# Altium schematic symbol library ATTINY25-20SU.SchLib: 1 symbol
Pins are listed as number, name and electrical type; pins without a type are passive.

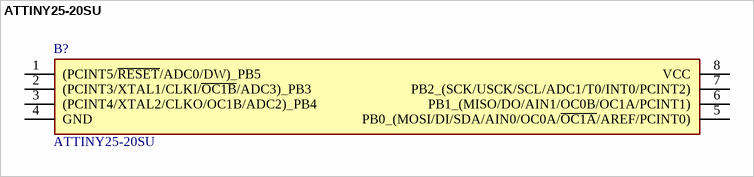
[diagram p0: symbol ATTINY25-20SU]

## ATTINY25-20SU
designator B?
ATTINY25-20SU, 8 bit AVR Microcontroller 20MHz 2, 128kB, B Flash, 128B RAM, I2C SPI 8-Pin SOIC; Manufacturer_Name: Microchip; Geometry.Height: 2.16mm; Mouser Part Number: 556-ATTINY25-20SU; Mouser Price/Stock: https://www.mouser.co.uk/ProductDetail/Microchip-Technology-Atmel/ATTINY25-20SU?qs=8jWQYweyg6Ne6mWXNq20wQ%3D%3D; Manufacturer_Part_Number: ATTINY25-20SU; Datasheet Link: https://datasheet.datasheetarchive.com/originals/distributors/Datasheets_SAMA/b7d776087f3438c2ffab22c1216558b5.pdf
footprint SOIC127P798X216-8N
pins: 1 (PCINT5/~{RESET}/ADC0/DW)_PB5, 2 (PCINT3/XTAL1/CLKI/~{OC1B}/ADC3)_PB3, 3 (PCINT4/XTAL2/CLKO/OC1B/ADC2)_PB4, 4 GND, 5 PB0_(MOSI/DI/SDA/AIN0/OC0A/~{OC1A}/AREF/PCINT0), 6 PB1_(MISO/DO/AIN1/OC0B/OC1A/PCINT1), 7 PB2_(SCK/USCK/SCL/ADC1/T0/INT0/PCINT2), 8 VCC